# Altium footprint library TI - ADC.PcbLib: 213 footprints (part 7 of 14)
Each footprint in its own frame and in the unit in brackets; x right, y up, seen from the top. Pads: shape width x height; smd on the part's side, far side on the other; paste and mask are expansions set on the pad; w line width, h text height; cw(c..) or ccw(c..) is an arc to the next point about the centre after c.
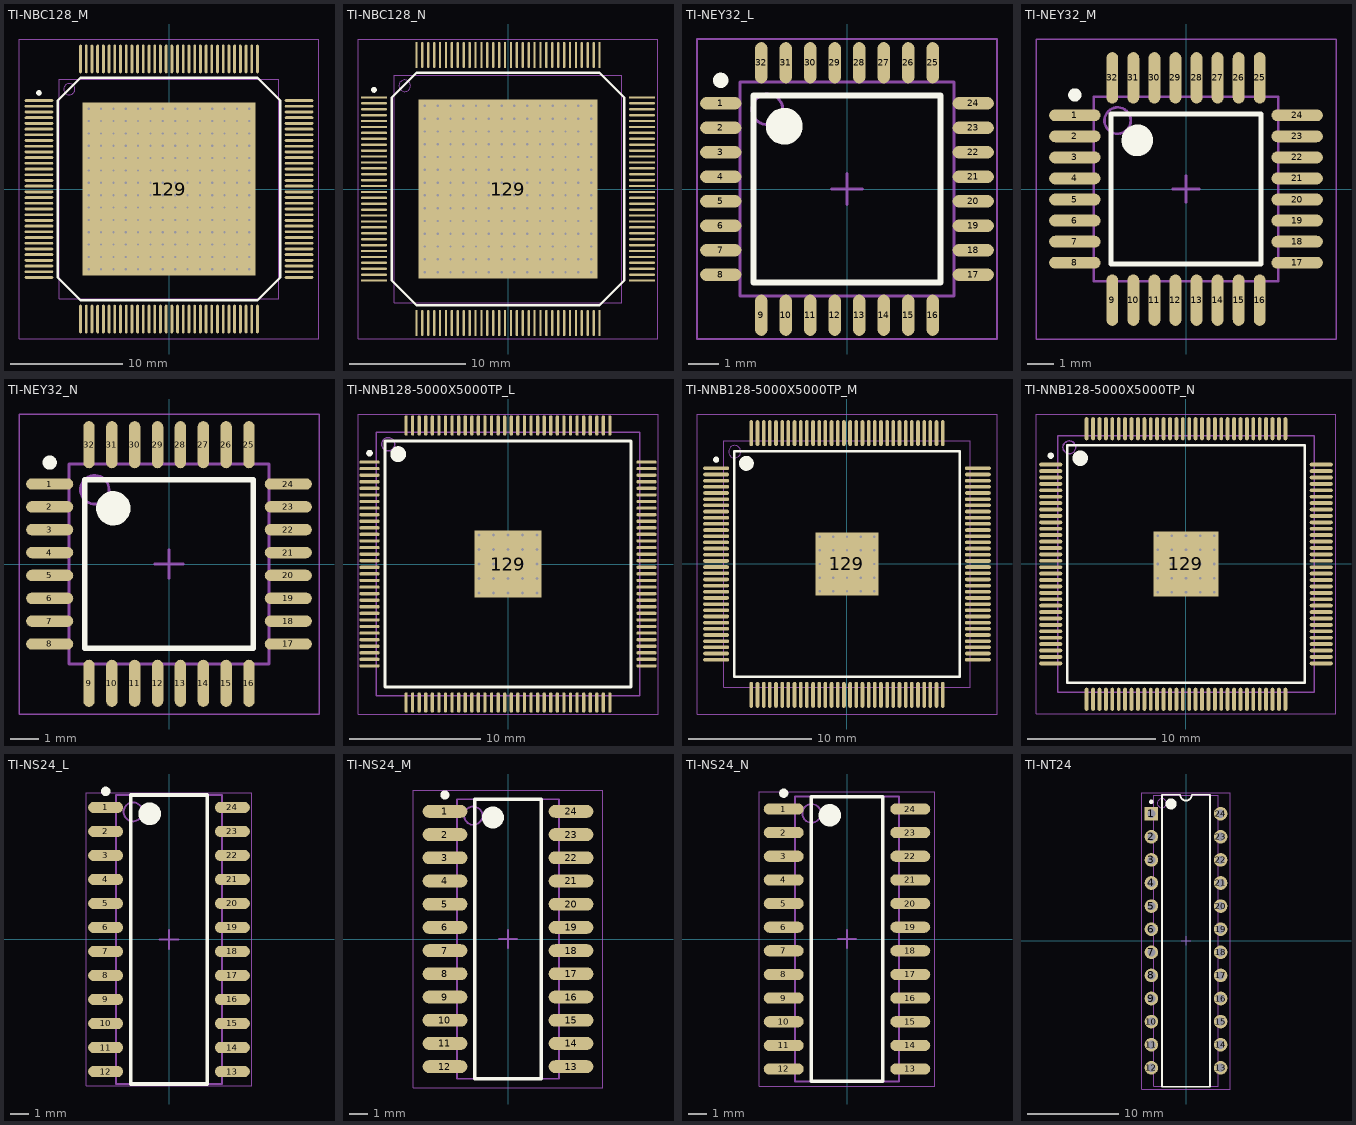
[diagram p6: the footprints below, top view; thin cyan lines are the x and y axes]

## TI-NBC128_M [mm] "CQFP, 128-Leads, Body 19.558x19.558mm, Pitch 0.508mm, Thermal Pad 15.39 x 15.39 mm, IPC Low Density"
height 1.99
pads (129):
  oval 2.55x0.25 smd: 1(-11.575,7.874) 2(-11.575,7.366) 3(-11.575,6.858) 4(-11.575,6.35) 5(-11.575,5.842) 6(-11.575,5.334) 7(-11.575,4.826) 8(-11.575,4.318) 9(-11.575,3.81) 10(-11.575,3.302) 11(-11.575,2.794) 12(-11.575,2.286) 13(-11.575,1.778) 14(-11.575,1.27) 15(-11.575,0.762) 16(-11.575,0.254) 17(-11.575,-0.254) 18(-11.575,-0.762) 19(-11.575,-1.27) 20(-11.575,-1.778) 21(-11.575,-2.286) 22(-11.575,-2.794) 23(-11.575,-3.302) 24(-11.575,-3.81) 25(-11.575,-4.318) 26(-11.575,-4.826) 27(-11.575,-5.334) 28(-11.575,-5.842) 29(-11.575,-6.35) 30(-11.575,-6.858) 31(-11.575,-7.366) 32(-11.575,-7.874) 65(11.575,-7.874) 66(11.575,-7.366) 67(11.575,-6.858) 68(11.575,-6.35) 69(11.575,-5.842) 70(11.575,-5.334) 71(11.575,-4.826) 72(11.575,-4.318) 73(11.575,-3.81) 74(11.575,-3.302) 75(11.575,-2.794) 76(11.575,-2.286) 77(11.575,-1.778) 78(11.575,-1.27) 79(11.575,-0.762) 80(11.575,-0.254) 81(11.575,0.254) 82(11.575,0.762) 83(11.575,1.27) 84(11.575,1.778) 85(11.575,2.286) 86(11.575,2.794) 87(11.575,3.302) 88(11.575,3.81) 89(11.575,4.318) 90(11.575,4.826) 91(11.575,5.334) 92(11.575,5.842) 93(11.575,6.35) 94(11.575,6.858) 95(11.575,7.366) 96(11.575,7.874)
  oval 0.25x2.55 smd: 33(-7.874,-11.575) 34(-7.366,-11.575) 35(-6.858,-11.575) 36(-6.35,-11.575) 37(-5.842,-11.575) 38(-5.334,-11.575) 39(-4.826,-11.575) 40(-4.318,-11.575) 41(-3.81,-11.575) 42(-3.302,-11.575) 43(-2.794,-11.575) 44(-2.286,-11.575) 45(-1.778,-11.575) 46(-1.27,-11.575) 47(-0.762,-11.575) 48(-0.254,-11.575) 49(0.254,-11.575) 50(0.762,-11.575) 51(1.27,-11.575) 52(1.778,-11.575) 53(2.286,-11.575) 54(2.794,-11.575) 55(3.302,-11.575) 56(3.81,-11.575) 57(4.318,-11.575) 58(4.826,-11.575) 59(5.334,-11.575) 60(5.842,-11.575) 61(6.35,-11.575) 62(6.858,-11.575) 63(7.366,-11.575) 64(7.874,-11.575) 97(7.874,11.575) 98(7.366,11.575) 99(6.858,11.575) 100(6.35,11.575) 101(5.842,11.575) 102(5.334,11.575) 103(4.826,11.575) 104(4.318,11.575) 105(3.81,11.575) 106(3.302,11.575) 107(2.794,11.575) 108(2.286,11.575) 109(1.778,11.575) 110(1.27,11.575) 111(0.762,11.575) 112(0.254,11.575) 113(-0.254,11.575) 114(-0.762,11.575) 115(-1.27,11.575) 116(-1.778,11.575) 117(-2.286,11.575) 118(-2.794,11.575) 119(-3.302,11.575) 120(-3.81,11.575) 121(-4.318,11.575) 122(-4.826,11.575) 123(-5.334,11.575) 124(-5.842,11.575) 125(-6.35,11.575) 126(-6.858,11.575) 127(-7.366,11.575) 128(-7.874,11.575)
  rect 15.39x15.39 smd: 129(0,0)
via -7.15,7.15 diameter 0.5 hole 0.2
via -6.05,7.15 diameter 0.5 hole 0.2
via -4.95,7.15 diameter 0.5 hole 0.2
via -3.85,7.15 diameter 0.5 hole 0.2
via -2.75,7.15 diameter 0.5 hole 0.2
via -1.65,7.15 diameter 0.5 hole 0.2
via -0.55,7.15 diameter 0.5 hole 0.2
via 0.55,7.15 diameter 0.5 hole 0.2
via 1.65,7.15 diameter 0.5 hole 0.2
via 2.75,7.15 diameter 0.5 hole 0.2
via 3.85,7.15 diameter 0.5 hole 0.2
via 4.95,7.15 diameter 0.5 hole 0.2
via 6.05,7.15 diameter 0.5 hole 0.2
via 7.15,7.15 diameter 0.5 hole 0.2
via -7.15,6.05 diameter 0.5 hole 0.2
via -6.05,6.05 diameter 0.5 hole 0.2
via -4.95,6.05 diameter 0.5 hole 0.2
via -3.85,6.05 diameter 0.5 hole 0.2
via -2.75,6.05 diameter 0.5 hole 0.2
via -1.65,6.05 diameter 0.5 hole 0.2
via -0.55,6.05 diameter 0.5 hole 0.2
via 0.55,6.05 diameter 0.5 hole 0.2
via 1.65,6.05 diameter 0.5 hole 0.2
via 2.75,6.05 diameter 0.5 hole 0.2
via 3.85,6.05 diameter 0.5 hole 0.2
via 4.95,6.05 diameter 0.5 hole 0.2
via 6.05,6.05 diameter 0.5 hole 0.2
via 7.15,6.05 diameter 0.5 hole 0.2
via -7.15,4.95 diameter 0.5 hole 0.2
via -6.05,4.95 diameter 0.5 hole 0.2
via -4.95,4.95 diameter 0.5 hole 0.2
via -3.85,4.95 diameter 0.5 hole 0.2
via -2.75,4.95 diameter 0.5 hole 0.2
via -1.65,4.95 diameter 0.5 hole 0.2
via -0.55,4.95 diameter 0.5 hole 0.2
via 0.55,4.95 diameter 0.5 hole 0.2
via 1.65,4.95 diameter 0.5 hole 0.2
via 2.75,4.95 diameter 0.5 hole 0.2
via 3.85,4.95 diameter 0.5 hole 0.2
via 4.95,4.95 diameter 0.5 hole 0.2
via 6.05,4.95 diameter 0.5 hole 0.2
via 7.15,4.95 diameter 0.5 hole 0.2
via -7.15,3.85 diameter 0.5 hole 0.2
via -6.05,3.85 diameter 0.5 hole 0.2
via -4.95,3.85 diameter 0.5 hole 0.2
via -3.85,3.85 diameter 0.5 hole 0.2
via -2.75,3.85 diameter 0.5 hole 0.2
via -1.65,3.85 diameter 0.5 hole 0.2
via -0.55,3.85 diameter 0.5 hole 0.2
via 0.55,3.85 diameter 0.5 hole 0.2
via 1.65,3.85 diameter 0.5 hole 0.2
via 2.75,3.85 diameter 0.5 hole 0.2
via 3.85,3.85 diameter 0.5 hole 0.2
via 4.95,3.85 diameter 0.5 hole 0.2
via 6.05,3.85 diameter 0.5 hole 0.2
via 7.15,3.85 diameter 0.5 hole 0.2
via -7.15,2.75 diameter 0.5 hole 0.2
via -6.05,2.75 diameter 0.5 hole 0.2
via -4.95,2.75 diameter 0.5 hole 0.2
via -3.85,2.75 diameter 0.5 hole 0.2
via -2.75,2.75 diameter 0.5 hole 0.2
via -1.65,2.75 diameter 0.5 hole 0.2
via -0.55,2.75 diameter 0.5 hole 0.2
via 0.55,2.75 diameter 0.5 hole 0.2
via 1.65,2.75 diameter 0.5 hole 0.2
via 2.75,2.75 diameter 0.5 hole 0.2
via 3.85,2.75 diameter 0.5 hole 0.2
via 4.95,2.75 diameter 0.5 hole 0.2
via 6.05,2.75 diameter 0.5 hole 0.2
via 7.15,2.75 diameter 0.5 hole 0.2
via -7.15,1.65 diameter 0.5 hole 0.2
via -6.05,1.65 diameter 0.5 hole 0.2
via -4.95,1.65 diameter 0.5 hole 0.2
via -3.85,1.65 diameter 0.5 hole 0.2
via -2.75,1.65 diameter 0.5 hole 0.2
via -1.65,1.65 diameter 0.5 hole 0.2
via -0.55,1.65 diameter 0.5 hole 0.2
via 0.55,1.65 diameter 0.5 hole 0.2
via 1.65,1.65 diameter 0.5 hole 0.2
via 2.75,1.65 diameter 0.5 hole 0.2
via 3.85,1.65 diameter 0.5 hole 0.2
via 4.95,1.65 diameter 0.5 hole 0.2
via 6.05,1.65 diameter 0.5 hole 0.2
via 7.15,1.65 diameter 0.5 hole 0.2
via -7.15,0.55 diameter 0.5 hole 0.2
via -6.05,0.55 diameter 0.5 hole 0.2
via -4.95,0.55 diameter 0.5 hole 0.2
via -3.85,0.55 diameter 0.5 hole 0.2
via -2.75,0.55 diameter 0.5 hole 0.2
via -1.65,0.55 diameter 0.5 hole 0.2
via -0.55,0.55 diameter 0.5 hole 0.2
via 0.55,0.55 diameter 0.5 hole 0.2
via 1.65,0.55 diameter 0.5 hole 0.2
via 2.75,0.55 diameter 0.5 hole 0.2
via 3.85,0.55 diameter 0.5 hole 0.2
via 4.95,0.55 diameter 0.5 hole 0.2
via 6.05,0.55 diameter 0.5 hole 0.2
via 7.15,0.55 diameter 0.5 hole 0.2
via -7.15,-0.55 diameter 0.5 hole 0.2
via -6.05,-0.55 diameter 0.5 hole 0.2
via -4.95,-0.55 diameter 0.5 hole 0.2
via -3.85,-0.55 diameter 0.5 hole 0.2
via -2.75,-0.55 diameter 0.5 hole 0.2
via -1.65,-0.55 diameter 0.5 hole 0.2
via -0.55,-0.55 diameter 0.5 hole 0.2
via 0.55,-0.55 diameter 0.5 hole 0.2
via 1.65,-0.55 diameter 0.5 hole 0.2
via 2.75,-0.55 diameter 0.5 hole 0.2
via 3.85,-0.55 diameter 0.5 hole 0.2
via 4.95,-0.55 diameter 0.5 hole 0.2
via 6.05,-0.55 diameter 0.5 hole 0.2
via 7.15,-0.55 diameter 0.5 hole 0.2
via -7.15,-1.65 diameter 0.5 hole 0.2
via -6.05,-1.65 diameter 0.5 hole 0.2
via -4.95,-1.65 diameter 0.5 hole 0.2
via -3.85,-1.65 diameter 0.5 hole 0.2
via -2.75,-1.65 diameter 0.5 hole 0.2
via -1.65,-1.65 diameter 0.5 hole 0.2
via -0.55,-1.65 diameter 0.5 hole 0.2
via 0.55,-1.65 diameter 0.5 hole 0.2
via 1.65,-1.65 diameter 0.5 hole 0.2
via 2.75,-1.65 diameter 0.5 hole 0.2
via 3.85,-1.65 diameter 0.5 hole 0.2
via 4.95,-1.65 diameter 0.5 hole 0.2
via 6.05,-1.65 diameter 0.5 hole 0.2
via 7.15,-1.65 diameter 0.5 hole 0.2
via -7.15,-2.75 diameter 0.5 hole 0.2
via -6.05,-2.75 diameter 0.5 hole 0.2
via -4.95,-2.75 diameter 0.5 hole 0.2
via -3.85,-2.75 diameter 0.5 hole 0.2
via -2.75,-2.75 diameter 0.5 hole 0.2
via -1.65,-2.75 diameter 0.5 hole 0.2
via -0.55,-2.75 diameter 0.5 hole 0.2
via 0.55,-2.75 diameter 0.5 hole 0.2
via 1.65,-2.75 diameter 0.5 hole 0.2
via 2.75,-2.75 diameter 0.5 hole 0.2
via 3.85,-2.75 diameter 0.5 hole 0.2
via 4.95,-2.75 diameter 0.5 hole 0.2
via 6.05,-2.75 diameter 0.5 hole 0.2
via 7.15,-2.75 diameter 0.5 hole 0.2
via -7.15,-3.85 diameter 0.5 hole 0.2
via -6.05,-3.85 diameter 0.5 hole 0.2
via -4.95,-3.85 diameter 0.5 hole 0.2
via -3.85,-3.85 diameter 0.5 hole 0.2
via -2.75,-3.85 diameter 0.5 hole 0.2
via -1.65,-3.85 diameter 0.5 hole 0.2
via -0.55,-3.85 diameter 0.5 hole 0.2
via 0.55,-3.85 diameter 0.5 hole 0.2
via 1.65,-3.85 diameter 0.5 hole 0.2
via 2.75,-3.85 diameter 0.5 hole 0.2
via 3.85,-3.85 diameter 0.5 hole 0.2
via 4.95,-3.85 diameter 0.5 hole 0.2
via 6.05,-3.85 diameter 0.5 hole 0.2
via 7.15,-3.85 diameter 0.5 hole 0.2
via -7.15,-4.95 diameter 0.5 hole 0.2
via -6.05,-4.95 diameter 0.5 hole 0.2
via -4.95,-4.95 diameter 0.5 hole 0.2
via -3.85,-4.95 diameter 0.5 hole 0.2
via -2.75,-4.95 diameter 0.5 hole 0.2
via -1.65,-4.95 diameter 0.5 hole 0.2
via -0.55,-4.95 diameter 0.5 hole 0.2
via 0.55,-4.95 diameter 0.5 hole 0.2
via 1.65,-4.95 diameter 0.5 hole 0.2
via 2.75,-4.95 diameter 0.5 hole 0.2
via 3.85,-4.95 diameter 0.5 hole 0.2
via 4.95,-4.95 diameter 0.5 hole 0.2
via 6.05,-4.95 diameter 0.5 hole 0.2
via 7.15,-4.95 diameter 0.5 hole 0.2
via -7.15,-6.05 diameter 0.5 hole 0.2
via -6.05,-6.05 diameter 0.5 hole 0.2
via -4.95,-6.05 diameter 0.5 hole 0.2
via -3.85,-6.05 diameter 0.5 hole 0.2
via -2.75,-6.05 diameter 0.5 hole 0.2
via -1.65,-6.05 diameter 0.5 hole 0.2
via -0.55,-6.05 diameter 0.5 hole 0.2
via 0.55,-6.05 diameter 0.5 hole 0.2
via 1.65,-6.05 diameter 0.5 hole 0.2
via 2.75,-6.05 diameter 0.5 hole 0.2
via 3.85,-6.05 diameter 0.5 hole 0.2
via 4.95,-6.05 diameter 0.5 hole 0.2
via 6.05,-6.05 diameter 0.5 hole 0.2
via 7.15,-6.05 diameter 0.5 hole 0.2
via -7.15,-7.15 diameter 0.5 hole 0.2
via -6.05,-7.15 diameter 0.5 hole 0.2
via -4.95,-7.15 diameter 0.5 hole 0.2
via -3.85,-7.15 diameter 0.5 hole 0.2
via -2.75,-7.15 diameter 0.5 hole 0.2
via -1.65,-7.15 diameter 0.5 hole 0.2
via -0.55,-7.15 diameter 0.5 hole 0.2
via 0.55,-7.15 diameter 0.5 hole 0.2
via 1.65,-7.15 diameter 0.5 hole 0.2
via 2.75,-7.15 diameter 0.5 hole 0.2
via 3.85,-7.15 diameter 0.5 hole 0.2
via 4.95,-7.15 diameter 0.5 hole 0.2
via 6.05,-7.15 diameter 0.5 hole 0.2
via 7.15,-7.15 diameter 0.5 hole 0.2
Top Overlay:
  circle w0.25: c-11.575,8.549 r0.125
  lines w0.2: -9.9,-7.875 -9.9,7.875 -7.875,9.9 7.875,9.9 9.9,7.875 9.9,-7.875 7.875,-9.9 -7.875,-9.9 -9.9,-7.875
Mechanical 13:
  circle w0.1: c-8.88,8.88 r0.5
  lines w0.1: -9.78,-9.78 -9.78,9.78 9.78,9.78 9.78,-9.78 -9.78,-9.78
Mechanical 15:
  lines w0.05: -13.35,-13.35 -13.35,13.35 13.35,13.35 13.35,-13.35 -13.35,-13.35
  lines w0.1: -0.5,0 0.5,0 ; 0,-0.5 0,0.5
3D body: height 1.99, standoff 0, extent -9.78,-9.78 9.78,9.78

## TI-NBC128_N [mm] "CQFP, 128-Leads, Body 19.558x19.558mm, Pitch 0.508mm, Thermal Pad 15.39 x 15.39 mm, IPC Medium Density"
height 1.99
pads (129):
  oval 2.25x0.2 smd: 1(-11.525,7.874) 2(-11.525,7.366) 3(-11.525,6.858) 4(-11.525,6.35) 5(-11.525,5.842) 6(-11.525,5.334) 7(-11.525,4.826) 8(-11.525,4.318) 9(-11.525,3.81) 10(-11.525,3.302) 11(-11.525,2.794) 12(-11.525,2.286) 13(-11.525,1.778) 14(-11.525,1.27) 15(-11.525,0.762) 16(-11.525,0.254) 17(-11.525,-0.254) 18(-11.525,-0.762) 19(-11.525,-1.27) 20(-11.525,-1.778) 21(-11.525,-2.286) 22(-11.525,-2.794) 23(-11.525,-3.302) 24(-11.525,-3.81) 25(-11.525,-4.318) 26(-11.525,-4.826) 27(-11.525,-5.334) 28(-11.525,-5.842) 29(-11.525,-6.35) 30(-11.525,-6.858) 31(-11.525,-7.366) 32(-11.525,-7.874) 65(11.525,-7.874) 66(11.525,-7.366) 67(11.525,-6.858) 68(11.525,-6.35) 69(11.525,-5.842) 70(11.525,-5.334) 71(11.525,-4.826) 72(11.525,-4.318) 73(11.525,-3.81) 74(11.525,-3.302) 75(11.525,-2.794) 76(11.525,-2.286) 77(11.525,-1.778) 78(11.525,-1.27) 79(11.525,-0.762) 80(11.525,-0.254) 81(11.525,0.254) 82(11.525,0.762) 83(11.525,1.27) 84(11.525,1.778) 85(11.525,2.286) 86(11.525,2.794) 87(11.525,3.302) 88(11.525,3.81) 89(11.525,4.318) 90(11.525,4.826) 91(11.525,5.334) 92(11.525,5.842) 93(11.525,6.35) 94(11.525,6.858) 95(11.525,7.366) 96(11.525,7.874)
  oval 0.2x2.25 smd: 33(-7.874,-11.525) 34(-7.366,-11.525) 35(-6.858,-11.525) 36(-6.35,-11.525) 37(-5.842,-11.525) 38(-5.334,-11.525) 39(-4.826,-11.525) 40(-4.318,-11.525) 41(-3.81,-11.525) 42(-3.302,-11.525) 43(-2.794,-11.525) 44(-2.286,-11.525) 45(-1.778,-11.525) 46(-1.27,-11.525) 47(-0.762,-11.525) 48(-0.254,-11.525) 49(0.254,-11.525) 50(0.762,-11.525) 51(1.27,-11.525) 52(1.778,-11.525) 53(2.286,-11.525) 54(2.794,-11.525) 55(3.302,-11.525) 56(3.81,-11.525) 57(4.318,-11.525) 58(4.826,-11.525) 59(5.334,-11.525) 60(5.842,-11.525) 61(6.35,-11.525) 62(6.858,-11.525) 63(7.366,-11.525) 64(7.874,-11.525) 97(7.874,11.525) 98(7.366,11.525) 99(6.858,11.525) 100(6.35,11.525) 101(5.842,11.525) 102(5.334,11.525) 103(4.826,11.525) 104(4.318,11.525) 105(3.81,11.525) 106(3.302,11.525) 107(2.794,11.525) 108(2.286,11.525) 109(1.778,11.525) 110(1.27,11.525) 111(0.762,11.525) 112(0.254,11.525) 113(-0.254,11.525) 114(-0.762,11.525) 115(-1.27,11.525) 116(-1.778,11.525) 117(-2.286,11.525) 118(-2.794,11.525) 119(-3.302,11.525) 120(-3.81,11.525) 121(-4.318,11.525) 122(-4.826,11.525) 123(-5.334,11.525) 124(-5.842,11.525) 125(-6.35,11.525) 126(-6.858,11.525) 127(-7.366,11.525) 128(-7.874,11.525)
  rect 15.39x15.39 smd: 129(0,0)
via -7.15,7.15 diameter 0.5 hole 0.2
via -6.05,7.15 diameter 0.5 hole 0.2
via -4.95,7.15 diameter 0.5 hole 0.2
via -3.85,7.15 diameter 0.5 hole 0.2
via -2.75,7.15 diameter 0.5 hole 0.2
via -1.65,7.15 diameter 0.5 hole 0.2
via -0.55,7.15 diameter 0.5 hole 0.2
via 0.55,7.15 diameter 0.5 hole 0.2
via 1.65,7.15 diameter 0.5 hole 0.2
via 2.75,7.15 diameter 0.5 hole 0.2
via 3.85,7.15 diameter 0.5 hole 0.2
via 4.95,7.15 diameter 0.5 hole 0.2
via 6.05,7.15 diameter 0.5 hole 0.2
via 7.15,7.15 diameter 0.5 hole 0.2
via -7.15,6.05 diameter 0.5 hole 0.2
via -6.05,6.05 diameter 0.5 hole 0.2
via -4.95,6.05 diameter 0.5 hole 0.2
via -3.85,6.05 diameter 0.5 hole 0.2
via -2.75,6.05 diameter 0.5 hole 0.2
via -1.65,6.05 diameter 0.5 hole 0.2
via -0.55,6.05 diameter 0.5 hole 0.2
via 0.55,6.05 diameter 0.5 hole 0.2
via 1.65,6.05 diameter 0.5 hole 0.2
via 2.75,6.05 diameter 0.5 hole 0.2
via 3.85,6.05 diameter 0.5 hole 0.2
via 4.95,6.05 diameter 0.5 hole 0.2
via 6.05,6.05 diameter 0.5 hole 0.2
via 7.15,6.05 diameter 0.5 hole 0.2
via -7.15,4.95 diameter 0.5 hole 0.2
via -6.05,4.95 diameter 0.5 hole 0.2
via -4.95,4.95 diameter 0.5 hole 0.2
via -3.85,4.95 diameter 0.5 hole 0.2
via -2.75,4.95 diameter 0.5 hole 0.2
via -1.65,4.95 diameter 0.5 hole 0.2
via -0.55,4.95 diameter 0.5 hole 0.2
via 0.55,4.95 diameter 0.5 hole 0.2
via 1.65,4.95 diameter 0.5 hole 0.2
via 2.75,4.95 diameter 0.5 hole 0.2
via 3.85,4.95 diameter 0.5 hole 0.2
via 4.95,4.95 diameter 0.5 hole 0.2
via 6.05,4.95 diameter 0.5 hole 0.2
via 7.15,4.95 diameter 0.5 hole 0.2
via -7.15,3.85 diameter 0.5 hole 0.2
via -6.05,3.85 diameter 0.5 hole 0.2
via -4.95,3.85 diameter 0.5 hole 0.2
via -3.85,3.85 diameter 0.5 hole 0.2
via -2.75,3.85 diameter 0.5 hole 0.2
via -1.65,3.85 diameter 0.5 hole 0.2
via -0.55,3.85 diameter 0.5 hole 0.2
via 0.55,3.85 diameter 0.5 hole 0.2
via 1.65,3.85 diameter 0.5 hole 0.2
via 2.75,3.85 diameter 0.5 hole 0.2
via 3.85,3.85 diameter 0.5 hole 0.2
via 4.95,3.85 diameter 0.5 hole 0.2
via 6.05,3.85 diameter 0.5 hole 0.2
via 7.15,3.85 diameter 0.5 hole 0.2
via -7.15,2.75 diameter 0.5 hole 0.2
via -6.05,2.75 diameter 0.5 hole 0.2
via -4.95,2.75 diameter 0.5 hole 0.2
via -3.85,2.75 diameter 0.5 hole 0.2
via -2.75,2.75 diameter 0.5 hole 0.2
via -1.65,2.75 diameter 0.5 hole 0.2
via -0.55,2.75 diameter 0.5 hole 0.2
via 0.55,2.75 diameter 0.5 hole 0.2
via 1.65,2.75 diameter 0.5 hole 0.2
via 2.75,2.75 diameter 0.5 hole 0.2
via 3.85,2.75 diameter 0.5 hole 0.2
via 4.95,2.75 diameter 0.5 hole 0.2
via 6.05,2.75 diameter 0.5 hole 0.2
via 7.15,2.75 diameter 0.5 hole 0.2
via -7.15,1.65 diameter 0.5 hole 0.2
via -6.05,1.65 diameter 0.5 hole 0.2
via -4.95,1.65 diameter 0.5 hole 0.2
via -3.85,1.65 diameter 0.5 hole 0.2
via -2.75,1.65 diameter 0.5 hole 0.2
via -1.65,1.65 diameter 0.5 hole 0.2
via -0.55,1.65 diameter 0.5 hole 0.2
via 0.55,1.65 diameter 0.5 hole 0.2
via 1.65,1.65 diameter 0.5 hole 0.2
via 2.75,1.65 diameter 0.5 hole 0.2
via 3.85,1.65 diameter 0.5 hole 0.2
via 4.95,1.65 diameter 0.5 hole 0.2
via 6.05,1.65 diameter 0.5 hole 0.2
via 7.15,1.65 diameter 0.5 hole 0.2
via -7.15,0.55 diameter 0.5 hole 0.2
via -6.05,0.55 diameter 0.5 hole 0.2
via -4.95,0.55 diameter 0.5 hole 0.2
via -3.85,0.55 diameter 0.5 hole 0.2
via -2.75,0.55 diameter 0.5 hole 0.2
via -1.65,0.55 diameter 0.5 hole 0.2
via -0.55,0.55 diameter 0.5 hole 0.2
via 0.55,0.55 diameter 0.5 hole 0.2
via 1.65,0.55 diameter 0.5 hole 0.2
via 2.75,0.55 diameter 0.5 hole 0.2
via 3.85,0.55 diameter 0.5 hole 0.2
via 4.95,0.55 diameter 0.5 hole 0.2
via 6.05,0.55 diameter 0.5 hole 0.2
via 7.15,0.55 diameter 0.5 hole 0.2
via -7.15,-0.55 diameter 0.5 hole 0.2
via -6.05,-0.55 diameter 0.5 hole 0.2
via -4.95,-0.55 diameter 0.5 hole 0.2
via -3.85,-0.55 diameter 0.5 hole 0.2
via -2.75,-0.55 diameter 0.5 hole 0.2
via -1.65,-0.55 diameter 0.5 hole 0.2
via -0.55,-0.55 diameter 0.5 hole 0.2
via 0.55,-0.55 diameter 0.5 hole 0.2
via 1.65,-0.55 diameter 0.5 hole 0.2
via 2.75,-0.55 diameter 0.5 hole 0.2
via 3.85,-0.55 diameter 0.5 hole 0.2
via 4.95,-0.55 diameter 0.5 hole 0.2
via 6.05,-0.55 diameter 0.5 hole 0.2
via 7.15,-0.55 diameter 0.5 hole 0.2
via -7.15,-1.65 diameter 0.5 hole 0.2
via -6.05,-1.65 diameter 0.5 hole 0.2
via -4.95,-1.65 diameter 0.5 hole 0.2
via -3.85,-1.65 diameter 0.5 hole 0.2
via -2.75,-1.65 diameter 0.5 hole 0.2
via -1.65,-1.65 diameter 0.5 hole 0.2
via -0.55,-1.65 diameter 0.5 hole 0.2
via 0.55,-1.65 diameter 0.5 hole 0.2
via 1.65,-1.65 diameter 0.5 hole 0.2
via 2.75,-1.65 diameter 0.5 hole 0.2
via 3.85,-1.65 diameter 0.5 hole 0.2
via 4.95,-1.65 diameter 0.5 hole 0.2
via 6.05,-1.65 diameter 0.5 hole 0.2
via 7.15,-1.65 diameter 0.5 hole 0.2
via -7.15,-2.75 diameter 0.5 hole 0.2
via -6.05,-2.75 diameter 0.5 hole 0.2
via -4.95,-2.75 diameter 0.5 hole 0.2
via -3.85,-2.75 diameter 0.5 hole 0.2
via -2.75,-2.75 diameter 0.5 hole 0.2
via -1.65,-2.75 diameter 0.5 hole 0.2
via -0.55,-2.75 diameter 0.5 hole 0.2
via 0.55,-2.75 diameter 0.5 hole 0.2
via 1.65,-2.75 diameter 0.5 hole 0.2
via 2.75,-2.75 diameter 0.5 hole 0.2
via 3.85,-2.75 diameter 0.5 hole 0.2
via 4.95,-2.75 diameter 0.5 hole 0.2
via 6.05,-2.75 diameter 0.5 hole 0.2
via 7.15,-2.75 diameter 0.5 hole 0.2
via -7.15,-3.85 diameter 0.5 hole 0.2
via -6.05,-3.85 diameter 0.5 hole 0.2
via -4.95,-3.85 diameter 0.5 hole 0.2
via -3.85,-3.85 diameter 0.5 hole 0.2
via -2.75,-3.85 diameter 0.5 hole 0.2
via -1.65,-3.85 diameter 0.5 hole 0.2
via -0.55,-3.85 diameter 0.5 hole 0.2
via 0.55,-3.85 diameter 0.5 hole 0.2
via 1.65,-3.85 diameter 0.5 hole 0.2
via 2.75,-3.85 diameter 0.5 hole 0.2
via 3.85,-3.85 diameter 0.5 hole 0.2
via 4.95,-3.85 diameter 0.5 hole 0.2
via 6.05,-3.85 diameter 0.5 hole 0.2
via 7.15,-3.85 diameter 0.5 hole 0.2
via -7.15,-4.95 diameter 0.5 hole 0.2
via -6.05,-4.95 diameter 0.5 hole 0.2
via -4.95,-4.95 diameter 0.5 hole 0.2
via -3.85,-4.95 diameter 0.5 hole 0.2
via -2.75,-4.95 diameter 0.5 hole 0.2
via -1.65,-4.95 diameter 0.5 hole 0.2
via -0.55,-4.95 diameter 0.5 hole 0.2
via 0.55,-4.95 diameter 0.5 hole 0.2
via 1.65,-4.95 diameter 0.5 hole 0.2
via 2.75,-4.95 diameter 0.5 hole 0.2
via 3.85,-4.95 diameter 0.5 hole 0.2
via 4.95,-4.95 diameter 0.5 hole 0.2
via 6.05,-4.95 diameter 0.5 hole 0.2
via 7.15,-4.95 diameter 0.5 hole 0.2
via -7.15,-6.05 diameter 0.5 hole 0.2
via -6.05,-6.05 diameter 0.5 hole 0.2
via -4.95,-6.05 diameter 0.5 hole 0.2
via -3.85,-6.05 diameter 0.5 hole 0.2
via -2.75,-6.05 diameter 0.5 hole 0.2
via -1.65,-6.05 diameter 0.5 hole 0.2
via -0.55,-6.05 diameter 0.5 hole 0.2
via 0.55,-6.05 diameter 0.5 hole 0.2
via 1.65,-6.05 diameter 0.5 hole 0.2
via 2.75,-6.05 diameter 0.5 hole 0.2
via 3.85,-6.05 diameter 0.5 hole 0.2
via 4.95,-6.05 diameter 0.5 hole 0.2
via 6.05,-6.05 diameter 0.5 hole 0.2
via 7.15,-6.05 diameter 0.5 hole 0.2
via -7.15,-7.15 diameter 0.5 hole 0.2
via -6.05,-7.15 diameter 0.5 hole 0.2
via -4.95,-7.15 diameter 0.5 hole 0.2
via -3.85,-7.15 diameter 0.5 hole 0.2
via -2.75,-7.15 diameter 0.5 hole 0.2
via -1.65,-7.15 diameter 0.5 hole 0.2
via -0.55,-7.15 diameter 0.5 hole 0.2
via 0.55,-7.15 diameter 0.5 hole 0.2
via 1.65,-7.15 diameter 0.5 hole 0.2
via 2.75,-7.15 diameter 0.5 hole 0.2
via 3.85,-7.15 diameter 0.5 hole 0.2
via 4.95,-7.15 diameter 0.5 hole 0.2
via 6.05,-7.15 diameter 0.5 hole 0.2
via 7.15,-7.15 diameter 0.5 hole 0.2
Top Overlay:
  circle w0.25: c-11.525,8.524 r0.125
  lines w0.2: -10,-7.875 -10,7.875 -7.875,10 7.875,10 10,7.875 10,-7.875 7.875,-10 -7.875,-10 -10,-7.875
Mechanical 13:
  circle w0.1: c-8.88,8.88 r0.5
  lines w0.1: -9.78,-9.78 -9.78,9.78 9.78,9.78 9.78,-9.78 -9.78,-9.78
Mechanical 15:
  lines w0.05: -12.9,-12.9 -12.9,12.9 12.9,12.9 12.9,-12.9 -12.9,-12.9
  lines w0.1: -0.5,0 0.5,0 ; 0,-0.5 0,0.5
3D body: height 1.99, standoff 0, extent -9.78,-9.78 9.78,9.78

## TI-NEY32_L [mm] "QFP, 32-Leads, Body 7x7mm, Pitch 0.8mm, IPC High Density"
height 1.6
pads (32):
  oval 1.35x0.4 smd: 1(-4.125,2.8) 2(-4.125,2) 3(-4.125,1.2) 4(-4.125,0.4) 5(-4.125,-0.4) 6(-4.125,-1.2) 7(-4.125,-2) 8(-4.125,-2.8) 17(4.125,-2.8) 18(4.125,-2) 19(4.125,-1.2) 20(4.125,-0.4) 21(4.125,0.4) 22(4.125,1.2) 23(4.125,2) 24(4.125,2.8)
  oval 0.4x1.35 smd: 9(-2.8,-4.125) 10(-2,-4.125) 11(-1.2,-4.125) 12(-0.4,-4.125) 13(0.4,-4.125) 14(1.2,-4.125) 15(2,-4.125) 16(2.8,-4.125) 25(2.8,4.125) 26(2,4.125) 27(1.2,4.125) 28(0.4,4.125) 29(-0.4,4.125) 30(-1.2,4.125) 31(-2,4.125) 32(-2.8,4.125)
Top Overlay:
  circle w0.25: c-4.125,3.55 r0.125
  circle w0.6: c-2.05,2.05 r0.3
  lines w0.2: -3.05,-3.05 -3.05,3.05 3.05,3.05 3.05,-3.05 -3.05,-3.05
Mechanical 13:
  circle w0.1: c-2.6,2.6 r0.5
  lines w0.1: -3.5,-3.5 -3.5,3.5 3.5,3.5 3.5,-3.5 -3.5,-3.5
Mechanical 15:
  lines w0.05: -4.9,-4.9 -4.9,4.9 4.9,4.9 4.9,-4.9 -4.9,-4.9
  lines w0.1: -0.5,0 0.5,0 ; 0,-0.5 0,0.5
3D body: height 1.6, standoff 0.05, extent -3.5,-3.5 3.5,3.5

## TI-NEY32_M [mm] "QFP, 32-Leads, Body 7x7mm, Pitch 0.8mm, IPC Low Density"
height 1.6
pads (32):
  oval 1.95x0.45 smd: 1(-4.225,2.8) 2(-4.225,2) 3(-4.225,1.2) 4(-4.225,0.4) 5(-4.225,-0.4) 6(-4.225,-1.2) 7(-4.225,-2) 8(-4.225,-2.8) 17(4.225,-2.8) 18(4.225,-2) 19(4.225,-1.2) 20(4.225,-0.4) 21(4.225,0.4) 22(4.225,1.2) 23(4.225,2) 24(4.225,2.8)
  oval 0.45x1.95 smd: 9(-2.8,-4.225) 10(-2,-4.225) 11(-1.2,-4.225) 12(-0.4,-4.225) 13(0.4,-4.225) 14(1.2,-4.225) 15(2,-4.225) 16(2.8,-4.225) 25(2.8,4.225) 26(2,4.225) 27(1.2,4.225) 28(0.4,4.225) 29(-0.4,4.225) 30(-1.2,4.225) 31(-2,4.225) 32(-2.8,4.225)
Top Overlay:
  circle w0.25: c-4.225,3.575 r0.125
  circle w0.6: c-1.85,1.85 r0.3
  lines w0.2: -2.85,-2.85 -2.85,2.85 2.85,2.85 2.85,-2.85 -2.85,-2.85
Mechanical 13:
  circle w0.1: c-2.6,2.6 r0.5
  lines w0.1: -3.5,-3.5 -3.5,3.5 3.5,3.5 3.5,-3.5 -3.5,-3.5
Mechanical 15:
  lines w0.05: -5.7,-5.7 -5.7,5.7 5.7,5.7 5.7,-5.7 -5.7,-5.7
  lines w0.1: -0.5,0 0.5,0 ; 0,-0.5 0,0.5
3D body: height 1.6, standoff 0.05, extent -3.5,-3.5 3.5,3.5

## TI-NEY32_N [mm] "QFP, 32-Leads, Body 7x7mm, Pitch 0.8mm, IPC Medium Density"
height 1.6
pads (32):
  oval 1.65x0.4 smd: 1(-4.175,2.8) 2(-4.175,2) 3(-4.175,1.2) 4(-4.175,0.4) 5(-4.175,-0.4) 6(-4.175,-1.2) 7(-4.175,-2) 8(-4.175,-2.8) 17(4.175,-2.8) 18(4.175,-2) 19(4.175,-1.2) 20(4.175,-0.4) 21(4.175,0.4) 22(4.175,1.2) 23(4.175,2) 24(4.175,2.8)
  oval 0.4x1.65 smd: 9(-2.8,-4.175) 10(-2,-4.175) 11(-1.2,-4.175) 12(-0.4,-4.175) 13(0.4,-4.175) 14(1.2,-4.175) 15(2,-4.175) 16(2.8,-4.175) 25(2.8,4.175) 26(2,4.175) 27(1.2,4.175) 28(0.4,4.175) 29(-0.4,4.175) 30(-1.2,4.175) 31(-2,4.175) 32(-2.8,4.175)
Top Overlay:
  circle w0.25: c-4.175,3.55 r0.125
  circle w0.6: c-1.95,1.95 r0.3
  lines w0.2: -2.95,-2.95 -2.95,2.95 2.95,2.95 2.95,-2.95 -2.95,-2.95
Mechanical 13:
  circle w0.1: c-2.6,2.6 r0.5
  lines w0.1: -3.5,-3.5 -3.5,3.5 3.5,3.5 3.5,-3.5 -3.5,-3.5
Mechanical 15:
  lines w0.05: -5.25,-5.25 -5.25,5.25 5.25,5.25 5.25,-5.25 -5.25,-5.25
  lines w0.1: -0.5,0 0.5,0 ; 0,-0.5 0,0.5
3D body: height 1.6, standoff 0.05, extent -3.5,-3.5 3.5,3.5

## TI-NNB128-5000X5000TP_L [mm] "QFP, 128-Leads, Body 20x20mm, Pitch 0.5mm, Thermal Pad 5.1x5.1mm, IPC High Density"
height 1.6
pads (129):
  oval 1.55x0.25 smd: 1(-10.525,7.75) 2(-10.525,7.25) 3(-10.525,6.75) 4(-10.525,6.25) 5(-10.525,5.75) 6(-10.525,5.25) 7(-10.525,4.75) 8(-10.525,4.25) 9(-10.525,3.75) 10(-10.525,3.25) 11(-10.525,2.75) 12(-10.525,2.25) 13(-10.525,1.75) 14(-10.525,1.25) 15(-10.525,0.75) 16(-10.525,0.25) 17(-10.525,-0.25) 18(-10.525,-0.75) 19(-10.525,-1.25) 20(-10.525,-1.75) 21(-10.525,-2.25) 22(-10.525,-2.75) 23(-10.525,-3.25) 24(-10.525,-3.75) 25(-10.525,-4.25) 26(-10.525,-4.75) 27(-10.525,-5.25) 28(-10.525,-5.75) 29(-10.525,-6.25) 30(-10.525,-6.75) 31(-10.525,-7.25) 32(-10.525,-7.75) 65(10.525,-7.75) 66(10.525,-7.25) 67(10.525,-6.75) 68(10.525,-6.25) 69(10.525,-5.75) 70(10.525,-5.25) 71(10.525,-4.75) 72(10.525,-4.25) 73(10.525,-3.75) 74(10.525,-3.25) 75(10.525,-2.75) 76(10.525,-2.25) 77(10.525,-1.75) 78(10.525,-1.25) 79(10.525,-0.75) 80(10.525,-0.25) 81(10.525,0.25) 82(10.525,0.75) 83(10.525,1.25) 84(10.525,1.75) 85(10.525,2.25) 86(10.525,2.75) 87(10.525,3.25) 88(10.525,3.75) 89(10.525,4.25) 90(10.525,4.75) 91(10.525,5.25) 92(10.525,5.75) 93(10.525,6.25) 94(10.525,6.75) 95(10.525,7.25) 96(10.525,7.75)
  oval 0.25x1.55 smd: 33(-7.75,-10.525) 34(-7.25,-10.525) 35(-6.75,-10.525) 36(-6.25,-10.525) 37(-5.75,-10.525) 38(-5.25,-10.525) 39(-4.75,-10.525) 40(-4.25,-10.525) 41(-3.75,-10.525) 42(-3.25,-10.525) 43(-2.75,-10.525) 44(-2.25,-10.525) 45(-1.75,-10.525) 46(-1.25,-10.525) 47(-0.75,-10.525) 48(-0.25,-10.525) 49(0.25,-10.525) 50(0.75,-10.525) 51(1.25,-10.525) 52(1.75,-10.525) 53(2.25,-10.525) 54(2.75,-10.525) 55(3.25,-10.525) 56(3.75,-10.525) 57(4.25,-10.525) 58(4.75,-10.525) 59(5.25,-10.525) 60(5.75,-10.525) 61(6.25,-10.525) 62(6.75,-10.525) 63(7.25,-10.525) 64(7.75,-10.525) 97(7.75,10.525) 98(7.25,10.525) 99(6.75,10.525) 100(6.25,10.525) 101(5.75,10.525) 102(5.25,10.525) 103(4.75,10.525) 104(4.25,10.525) 105(3.75,10.525) 106(3.25,10.525) 107(2.75,10.525) 108(2.25,10.525) 109(1.75,10.525) 110(1.25,10.525) 111(0.75,10.525) 112(0.25,10.525) 113(-0.25,10.525) 114(-0.75,10.525) 115(-1.25,10.525) 116(-1.75,10.525) 117(-2.25,10.525) 118(-2.75,10.525) 119(-3.25,10.525) 120(-3.75,10.525) 121(-4.25,10.525) 122(-4.75,10.525) 123(-5.25,10.525) 124(-5.75,10.525) 125(-6.25,10.525) 126(-6.75,10.525) 127(-7.25,10.525) 128(-7.75,10.525)
  rect 5.1x5.1 smd: 129(0,0)
via -2.2,2.2 diameter 0.5 hole 0.2
via -1.1,2.2 diameter 0.5 hole 0.2
via 0,2.2 diameter 0.5 hole 0.2
via 1.1,2.2 diameter 0.5 hole 0.2
via 2.2,2.2 diameter 0.5 hole 0.2
via -2.2,1.1 diameter 0.5 hole 0.2
via -1.1,1.1 diameter 0.5 hole 0.2
via 0,1.1 diameter 0.5 hole 0.2
via 1.1,1.1 diameter 0.5 hole 0.2
via 2.2,1.1 diameter 0.5 hole 0.2
via -2.2,0 diameter 0.5 hole 0.2
via -1.1,0 diameter 0.5 hole 0.2
via 0,0 diameter 0.5 hole 0.2
via 1.1,0 diameter 0.5 hole 0.2
via 2.2,0 diameter 0.5 hole 0.2
via -2.2,-1.1 diameter 0.5 hole 0.2
via -1.1,-1.1 diameter 0.5 hole 0.2
via 0,-1.1 diameter 0.5 hole 0.2
via 1.1,-1.1 diameter 0.5 hole 0.2
via 2.2,-1.1 diameter 0.5 hole 0.2
via -2.2,-2.2 diameter 0.5 hole 0.2
via -1.1,-2.2 diameter 0.5 hole 0.2
via 0,-2.2 diameter 0.5 hole 0.2
via 1.1,-2.2 diameter 0.5 hole 0.2
via 2.2,-2.2 diameter 0.5 hole 0.2
Top Overlay:
  circle w0.25: c-10.525,8.425 r0.125
  circle w0.6: c-8.35,8.35 r0.3
  lines w0.2: -9.35,-9.35 -9.35,9.35 9.35,9.35 9.35,-9.35 -9.35,-9.35
Mechanical 13:
  circle w0.1: c-9.1,9.1 r0.5
  lines w0.1: -10,-10 -10,10 10,10 10,-10 -10,-10
Mechanical 15:
  lines w0.05: -11.4,-11.4 -11.4,11.4 11.4,11.4 11.4,-11.4 -11.4,-11.4
  lines w0.1: -0.5,0 0.5,0 ; 0,-0.5 0,0.5
3D body: height 1.6, standoff 0.05, extent -10,-10 10,10

## TI-NNB128-5000X5000TP_M [mm] "QFP, 128-Leads, Body 20x20mm, Pitch 0.5mm, Thermal Pad 5.1x5.1mm, IPC Low Density"
height 1.6
pads (129):
  oval 2.1x0.3 smd: 1(-10.6,7.75) 2(-10.6,7.25) 3(-10.6,6.75) 4(-10.6,6.25) 5(-10.6,5.75) 6(-10.6,5.25) 7(-10.6,4.75) 8(-10.6,4.25) 9(-10.6,3.75) 10(-10.6,3.25) 11(-10.6,2.75) 12(-10.6,2.25) 13(-10.6,1.75) 14(-10.6,1.25) 15(-10.6,0.75) 16(-10.6,0.25) 17(-10.6,-0.25) 18(-10.6,-0.75) 19(-10.6,-1.25) 20(-10.6,-1.75) 21(-10.6,-2.25) 22(-10.6,-2.75) 23(-10.6,-3.25) 24(-10.6,-3.75) 25(-10.6,-4.25) 26(-10.6,-4.75) 27(-10.6,-5.25) 28(-10.6,-5.75) 29(-10.6,-6.25) 30(-10.6,-6.75) 31(-10.6,-7.25) 32(-10.6,-7.75) 65(10.6,-7.75) 66(10.6,-7.25) 67(10.6,-6.75) 68(10.6,-6.25) 69(10.6,-5.75) 70(10.6,-5.25) 71(10.6,-4.75) 72(10.6,-4.25) 73(10.6,-3.75) 74(10.6,-3.25) 75(10.6,-2.75) 76(10.6,-2.25) 77(10.6,-1.75) 78(10.6,-1.25) 79(10.6,-0.75) 80(10.6,-0.25) 81(10.6,0.25) 82(10.6,0.75) 83(10.6,1.25) 84(10.6,1.75) 85(10.6,2.25) 86(10.6,2.75) 87(10.6,3.25) 88(10.6,3.75) 89(10.6,4.25) 90(10.6,4.75) 91(10.6,5.25) 92(10.6,5.75) 93(10.6,6.25) 94(10.6,6.75) 95(10.6,7.25) 96(10.6,7.75)
  oval 0.3x2.1 smd: 33(-7.75,-10.6) 34(-7.25,-10.6) 35(-6.75,-10.6) 36(-6.25,-10.6) 37(-5.75,-10.6) 38(-5.25,-10.6) 39(-4.75,-10.6) 40(-4.25,-10.6) 41(-3.75,-10.6) 42(-3.25,-10.6) 43(-2.75,-10.6) 44(-2.25,-10.6) 45(-1.75,-10.6) 46(-1.25,-10.6) 47(-0.75,-10.6) 48(-0.25,-10.6) 49(0.25,-10.6) 50(0.75,-10.6) 51(1.25,-10.6) 52(1.75,-10.6) 53(2.25,-10.6) 54(2.75,-10.6) 55(3.25,-10.6) 56(3.75,-10.6) 57(4.25,-10.6) 58(4.75,-10.6) 59(5.25,-10.6) 60(5.75,-10.6) 61(6.25,-10.6) 62(6.75,-10.6) 63(7.25,-10.6) 64(7.75,-10.6) 97(7.75,10.6) 98(7.25,10.6) 99(6.75,10.6) 100(6.25,10.6) 101(5.75,10.6) 102(5.25,10.6) 103(4.75,10.6) 104(4.25,10.6) 105(3.75,10.6) 106(3.25,10.6) 107(2.75,10.6) 108(2.25,10.6) 109(1.75,10.6) 110(1.25,10.6) 111(0.75,10.6) 112(0.25,10.6) 113(-0.25,10.6) 114(-0.75,10.6) 115(-1.25,10.6) 116(-1.75,10.6) 117(-2.25,10.6) 118(-2.75,10.6) 119(-3.25,10.6) 120(-3.75,10.6) 121(-4.25,10.6) 122(-4.75,10.6) 123(-5.25,10.6) 124(-5.75,10.6) 125(-6.25,10.6) 126(-6.75,10.6) 127(-7.25,10.6) 128(-7.75,10.6)
  rect 5.1x5.1 smd: 129(0,0)
via -2.2,2.2 diameter 0.5 hole 0.2
via -1.1,2.2 diameter 0.5 hole 0.2
via 0,2.2 diameter 0.5 hole 0.2
via 1.1,2.2 diameter 0.5 hole 0.2
via 2.2,2.2 diameter 0.5 hole 0.2
via -2.2,1.1 diameter 0.5 hole 0.2
via -1.1,1.1 diameter 0.5 hole 0.2
via 0,1.1 diameter 0.5 hole 0.2
via 1.1,1.1 diameter 0.5 hole 0.2
via 2.2,1.1 diameter 0.5 hole 0.2
via -2.2,0 diameter 0.5 hole 0.2
via -1.1,0 diameter 0.5 hole 0.2
via 0,0 diameter 0.5 hole 0.2
via 1.1,0 diameter 0.5 hole 0.2
via 2.2,0 diameter 0.5 hole 0.2
via -2.2,-1.1 diameter 0.5 hole 0.2
via -1.1,-1.1 diameter 0.5 hole 0.2
via 0,-1.1 diameter 0.5 hole 0.2
via 1.1,-1.1 diameter 0.5 hole 0.2
via 2.2,-1.1 diameter 0.5 hole 0.2
via -2.2,-2.2 diameter 0.5 hole 0.2
via -1.1,-2.2 diameter 0.5 hole 0.2
via 0,-2.2 diameter 0.5 hole 0.2
via 1.1,-2.2 diameter 0.5 hole 0.2
via 2.2,-2.2 diameter 0.5 hole 0.2
Top Overlay:
  circle w0.25: c-10.6,8.45 r0.125
  circle w0.6: c-8.15,8.15 r0.3
  lines w0.2: -9.15,-9.15 -9.15,9.15 9.15,9.15 9.15,-9.15 -9.15,-9.15
Mechanical 13:
  circle w0.1: c-9.1,9.1 r0.5
  lines w0.1: -10,-10 -10,10 10,10 10,-10 -10,-10
Mechanical 15:
  lines w0.05: -12.15,-12.15 -12.15,12.15 12.15,12.15 12.15,-12.15 -12.15,-12.15
  lines w0.1: -0.5,0 0.5,0 ; 0,-0.5 0,0.5
3D body: height 1.6, standoff 0.05, extent -10,-10 10,10

## TI-NNB128-5000X5000TP_N [mm] "QFP, 128-Leads, Body 20x20mm, Pitch 0.5mm, Thermal Pad 5.1x5.1mm, IPC Medium Density"
height 1.6
pads (129):
  oval 1.8x0.3 smd: 1(-10.55,7.75) 2(-10.55,7.25) 3(-10.55,6.75) 4(-10.55,6.25) 5(-10.55,5.75) 6(-10.55,5.25) 7(-10.55,4.75) 8(-10.55,4.25) 9(-10.55,3.75) 10(-10.55,3.25) 11(-10.55,2.75) 12(-10.55,2.25) 13(-10.55,1.75) 14(-10.55,1.25) 15(-10.55,0.75) 16(-10.55,0.25) 17(-10.55,-0.25) 18(-10.55,-0.75) 19(-10.55,-1.25) 20(-10.55,-1.75) 21(-10.55,-2.25) 22(-10.55,-2.75) 23(-10.55,-3.25) 24(-10.55,-3.75) 25(-10.55,-4.25) 26(-10.55,-4.75) 27(-10.55,-5.25) 28(-10.55,-5.75) 29(-10.55,-6.25) 30(-10.55,-6.75) 31(-10.55,-7.25) 32(-10.55,-7.75) 65(10.55,-7.75) 66(10.55,-7.25) 67(10.55,-6.75) 68(10.55,-6.25) 69(10.55,-5.75) 70(10.55,-5.25) 71(10.55,-4.75) 72(10.55,-4.25) 73(10.55,-3.75) 74(10.55,-3.25) 75(10.55,-2.75) 76(10.55,-2.25) 77(10.55,-1.75) 78(10.55,-1.25) 79(10.55,-0.75) 80(10.55,-0.25) 81(10.55,0.25) 82(10.55,0.75) 83(10.55,1.25) 84(10.55,1.75) 85(10.55,2.25) 86(10.55,2.75) 87(10.55,3.25) 88(10.55,3.75) 89(10.55,4.25) 90(10.55,4.75) 91(10.55,5.25) 92(10.55,5.75) 93(10.55,6.25) 94(10.55,6.75) 95(10.55,7.25) 96(10.55,7.75)
  oval 0.3x1.8 smd: 33(-7.75,-10.55) 34(-7.25,-10.55) 35(-6.75,-10.55) 36(-6.25,-10.55) 37(-5.75,-10.55) 38(-5.25,-10.55) 39(-4.75,-10.55) 40(-4.25,-10.55) 41(-3.75,-10.55) 42(-3.25,-10.55) 43(-2.75,-10.55) 44(-2.25,-10.55) 45(-1.75,-10.55) 46(-1.25,-10.55) 47(-0.75,-10.55) 48(-0.25,-10.55) 49(0.25,-10.55) 50(0.75,-10.55) 51(1.25,-10.55) 52(1.75,-10.55) 53(2.25,-10.55) 54(2.75,-10.55) 55(3.25,-10.55) 56(3.75,-10.55) 57(4.25,-10.55) 58(4.75,-10.55) 59(5.25,-10.55) 60(5.75,-10.55) 61(6.25,-10.55) 62(6.75,-10.55) 63(7.25,-10.55) 64(7.75,-10.55) 97(7.75,10.55) 98(7.25,10.55) 99(6.75,10.55) 100(6.25,10.55) 101(5.75,10.55) 102(5.25,10.55) 103(4.75,10.55) 104(4.25,10.55) 105(3.75,10.55) 106(3.25,10.55) 107(2.75,10.55) 108(2.25,10.55) 109(1.75,10.55) 110(1.25,10.55) 111(0.75,10.55) 112(0.25,10.55) 113(-0.25,10.55) 114(-0.75,10.55) 115(-1.25,10.55) 116(-1.75,10.55) 117(-2.25,10.55) 118(-2.75,10.55) 119(-3.25,10.55) 120(-3.75,10.55) 121(-4.25,10.55) 122(-4.75,10.55) 123(-5.25,10.55) 124(-5.75,10.55) 125(-6.25,10.55) 126(-6.75,10.55) 127(-7.25,10.55) 128(-7.75,10.55)
  rect 5.1x5.1 smd: 129(0,0)
via -2.2,2.2 diameter 0.5 hole 0.2
via -1.1,2.2 diameter 0.5 hole 0.2
via 0,2.2 diameter 0.5 hole 0.2
via 1.1,2.2 diameter 0.5 hole 0.2
via 2.2,2.2 diameter 0.5 hole 0.2
via -2.2,1.1 diameter 0.5 hole 0.2
via -1.1,1.1 diameter 0.5 hole 0.2
via 0,1.1 diameter 0.5 hole 0.2
via 1.1,1.1 diameter 0.5 hole 0.2
via 2.2,1.1 diameter 0.5 hole 0.2
via -2.2,0 diameter 0.5 hole 0.2
via -1.1,0 diameter 0.5 hole 0.2
via 0,0 diameter 0.5 hole 0.2
via 1.1,0 diameter 0.5 hole 0.2
via 2.2,0 diameter 0.5 hole 0.2
via -2.2,-1.1 diameter 0.5 hole 0.2
via -1.1,-1.1 diameter 0.5 hole 0.2
via 0,-1.1 diameter 0.5 hole 0.2
via 1.1,-1.1 diameter 0.5 hole 0.2
via 2.2,-1.1 diameter 0.5 hole 0.2
via -2.2,-2.2 diameter 0.5 hole 0.2
via -1.1,-2.2 diameter 0.5 hole 0.2
via 0,-2.2 diameter 0.5 hole 0.2
via 1.1,-2.2 diameter 0.5 hole 0.2
via 2.2,-2.2 diameter 0.5 hole 0.2
Top Overlay:
  circle w0.25: c-10.55,8.45 r0.125
  circle w0.6: c-8.25,8.25 r0.3
  lines w0.2: -9.25,-9.25 -9.25,9.25 9.25,9.25 9.25,-9.25 -9.25,-9.25
Mechanical 13:
  circle w0.1: c-9.1,9.1 r0.5
  lines w0.1: -10,-10 -10,10 10,10 10,-10 -10,-10
Mechanical 15:
  lines w0.05: -11.7,-11.7 -11.7,11.7 11.7,11.7 11.7,-11.7 -11.7,-11.7
  lines w0.1: -0.5,0 0.5,0 ; 0,-0.5 0,0.5
3D body: height 1.6, standoff 0.05, extent -10,-10 10,10

## TI-NS24_L [mm] "SOP, 24-Leads, Body 15x5.3mm, Pitch 1.27mm, IPC High Density"
height 2
pads (24):
  oval 1.85x0.6 smd: 1(-3.35,6.985) 2(-3.35,5.715) 3(-3.35,4.445) 4(-3.35,3.175) 5(-3.35,1.905) 6(-3.35,0.635) 7(-3.35,-0.635) 8(-3.35,-1.905) 9(-3.35,-3.175) 10(-3.35,-4.445) 11(-3.35,-5.715) 12(-3.35,-6.985) 13(3.35,-6.985) 14(3.35,-5.715) 15(3.35,-4.445) 16(3.35,-3.175) 17(3.35,-1.905) 18(3.35,-0.635) 19(3.35,0.635) 20(3.35,1.905) 21(3.35,3.175) 22(3.35,4.445) 23(3.35,5.715) 24(3.35,6.985)
Top Overlay:
  circle w0.25: c-3.35,7.835 r0.125
  circle w0.6: c-1.025,6.65 r0.3
  lines w0.2: -2.025,-7.65 -2.025,7.65 2.025,7.65 2.025,-7.65 -2.025,-7.65
Mechanical 13:
  circle w0.1: c-1.9,6.75 r0.5
  lines w0.1: -2.8,-7.65 -2.8,7.65 2.8,7.65 2.8,-7.65 -2.8,-7.65
Mechanical 15:
  lines w0.05: -4.375,-7.75 -4.375,7.75 4.375,7.75 4.375,-7.75 -4.375,-7.75
  lines w0.1: -0.5,0 0.5,0 ; 0,-0.5 0,0.5
3D body: height 2, standoff 0.05, extent -2.8,-7.65 2.8,7.65

## TI-NS24_M [mm] "SOP, 24-Leads, Body 15x5.3mm, Pitch 1.27mm, IPC Low Density"
height 2
pads (24):
  oval 2.45x0.7 smd: 1(-3.45,6.985) 2(-3.45,5.715) 3(-3.45,4.445) 4(-3.45,3.175) 5(-3.45,1.905) 6(-3.45,0.635) 7(-3.45,-0.635) 8(-3.45,-1.905) 9(-3.45,-3.175) 10(-3.45,-4.445) 11(-3.45,-5.715) 12(-3.45,-6.985) 13(3.45,-6.985) 14(3.45,-5.715) 15(3.45,-4.445) 16(3.45,-3.175) 17(3.45,-1.905) 18(3.45,-0.635) 19(3.45,0.635) 20(3.45,1.905) 21(3.45,3.175) 22(3.45,4.445) 23(3.45,5.715) 24(3.45,6.985)
Top Overlay:
  circle w0.25: c-3.45,7.885 r0.125
  circle w0.6: c-0.825,6.65 r0.3
  lines w0.2: -1.825,-7.65 -1.825,7.65 1.825,7.65 1.825,-7.65 -1.825,-7.65
Mechanical 13:
  circle w0.1: c-1.9,6.75 r0.5
  lines w0.1: -2.8,-7.65 -2.8,7.65 2.8,7.65 2.8,-7.65 -2.8,-7.65
Mechanical 15:
  lines w0.05: -5.175,-8.15 -5.175,8.15 5.175,8.15 5.175,-8.15 -5.175,-8.15
  lines w0.1: -0.5,0 0.5,0 ; 0,-0.5 0,0.5
3D body: height 2, standoff 0.05, extent -2.8,-7.65 2.8,7.65

## TI-NS24_N [mm] "SOP, 24-Leads, Body 15x5.3mm, Pitch 1.27mm, IPC Medium Density"
height 2
pads (24):
  oval 2.15x0.6 smd: 1(-3.4,6.985) 2(-3.4,5.715) 3(-3.4,4.445) 4(-3.4,3.175) 5(-3.4,1.905) 6(-3.4,0.635) 7(-3.4,-0.635) 8(-3.4,-1.905) 9(-3.4,-3.175) 10(-3.4,-4.445) 11(-3.4,-5.715) 12(-3.4,-6.985) 13(3.4,-6.985) 14(3.4,-5.715) 15(3.4,-4.445) 16(3.4,-3.175) 17(3.4,-1.905) 18(3.4,-0.635) 19(3.4,0.635) 20(3.4,1.905) 21(3.4,3.175) 22(3.4,4.445) 23(3.4,5.715) 24(3.4,6.985)
Top Overlay:
  circle w0.25: c-3.4,7.835 r0.125
  circle w0.6: c-0.925,6.65 r0.3
  lines w0.2: -1.925,-7.65 -1.925,7.65 1.925,7.65 1.925,-7.65 -1.925,-7.65
Mechanical 13:
  circle w0.1: c-1.9,6.75 r0.5
  lines w0.1: -2.8,-7.65 -2.8,7.65 2.8,7.65 2.8,-7.65 -2.8,-7.65
Mechanical 15:
  lines w0.05: -4.725,-7.9 -4.725,7.9 4.725,7.9 4.725,-7.9 -4.725,-7.9
  lines w0.1: -0.5,0 0.5,0 ; 0,-0.5 0,0.5
3D body: height 2, standoff 0.05, extent -2.8,-7.65 2.8,7.65

## TI-NT24 [mm] "DIP, 24-Leads, Body 31.64x6.73mm, Pitch 2.54mm"
height 5.08
pads (24):
  rect 1.5x1.5 hole 0.9: 1(-3.81,13.97)
  round 1.5 hole 0.9: 2(-3.81,11.43) 3(-3.81,8.89) 4(-3.81,6.35) 5(-3.81,3.81) 6(-3.81,1.27) 7(-3.81,-1.27) 8(-3.81,-3.81) 9(-3.81,-6.35) 10(-3.81,-8.89) 11(-3.81,-11.43) 12(-3.81,-13.97) 13(3.81,-13.97) 14(3.81,-11.43) 15(3.81,-8.89) 16(3.81,-6.35) 17(3.81,-3.81) 18(3.81,-1.27) 19(3.81,1.27) 20(3.81,3.81) 21(3.81,6.35) 22(3.81,8.89) 23(3.81,11.43) 24(3.81,13.97)
Top Overlay:
  circle w0.25: c-3.81,15.27 r0.125
  circle w0.6: c-1.65,15.05 r0.3
  lines w0.2: -2.65,-16.05 -2.65,16.05 -0.635,16.05 ccw(c0,16.05) 0.635,16.05 2.65,16.05 2.65,-16.05 -2.65,-16.05
Mechanical 13:
  circle w0.1: c-2.65,15.125 r0.5
  lines w0.1: -3.55,-16.025 -3.55,16.025 3.55,16.025 3.55,-16.025 -3.55,-16.025
Mechanical 15:
  lines w0.05: -4.85,-16.3 -4.85,16.3 4.85,16.3 4.85,-16.3 -4.85,-16.3
  lines w0.1: -0.5,0 0.5,0 ; 0,-0.5 0,0.5
3D body: height 2.66, standoff 0, extent -3.945,13.47 -3.675,14.47
3D body: height 2.93, standoff 2.66, extent -3.945,13.47 -3.55,14.47
3D body: height 0, standoff -1.6, extent -3.945,13.61 -3.675,14.33
3D body: height 2.66, standoff 0, extent -3.945,10.93 -3.675,11.93
3D body: height 2.93, standoff 2.66, extent -3.945,10.93 -3.55,11.93
3D body: height 0, standoff -1.6, extent -3.945,11.07 -3.675,11.79
3D body: height 2.66, standoff 0, extent -3.945,8.39 -3.675,9.39
3D body: height 2.93, standoff 2.66, extent -3.945,8.39 -3.55,9.39
3D body: height 0, standoff -1.6, extent -3.945,8.53 -3.675,9.25
3D body: height 2.66, standoff 0, extent -3.945,5.85 -3.675,6.85
3D body: height 2.93, standoff 2.66, extent -3.945,5.85 -3.55,6.85
3D body: height 0, standoff -1.6, extent -3.945,5.99 -3.675,6.71
3D body: height 2.66, standoff 0, extent -3.945,3.31 -3.675,4.31
3D body: height 2.93, standoff 2.66, extent -3.945,3.31 -3.55,4.31
3D body: height 0, standoff -1.6, extent -3.945,3.45 -3.675,4.17
3D body: height 2.66, standoff 0, extent -3.945,0.77 -3.675,1.77
3D body: height 2.93, standoff 2.66, extent -3.945,0.77 -3.55,1.77
3D body: height 0, standoff -1.6, extent -3.945,0.91 -3.675,1.63
3D body: height 2.66, standoff 0, extent -3.945,-1.77 -3.675,-0.77
3D body: height 2.93, standoff 2.66, extent -3.945,-1.77 -3.55,-0.77
3D body: height 0, standoff -1.6, extent -3.945,-1.63 -3.675,-0.91
3D body: height 2.66, standoff 0, extent -3.945,-4.31 -3.675,-3.31
3D body: height 2.93, standoff 2.66, extent -3.945,-4.31 -3.55,-3.31
3D body: height 0, standoff -1.6, extent -3.945,-4.17 -3.675,-3.45
3D body: height 2.66, standoff 0, extent -3.945,-6.85 -3.675,-5.85
3D body: height 2.93, standoff 2.66, extent -3.945,-6.85 -3.55,-5.85
3D body: height 0, standoff -1.6, extent -3.945,-6.71 -3.675,-5.99
3D body: height 2.66, standoff 0, extent -3.945,-9.39 -3.675,-8.39
3D body: height 2.93, standoff 2.66, extent -3.945,-9.39 -3.55,-8.39
3D body: height 0, standoff -1.6, extent -3.945,-9.25 -3.675,-8.53
3D body: height 2.66, standoff 0, extent -3.945,-11.93 -3.675,-10.93
3D body: height 2.93, standoff 2.66, extent -3.945,-11.93 -3.55,-10.93
3D body: height 0, standoff -1.6, extent -3.945,-11.79 -3.675,-11.07
3D body: height 2.66, standoff 0, extent -3.945,-14.47 -3.675,-13.47
3D body: height 2.93, standoff 2.66, extent -3.945,-14.47 -3.55,-13.47
3D body: height 0, standoff -1.6, extent -3.945,-14.33 -3.675,-13.61
3D body: height 2.66, standoff 0, extent 3.675,-14.47 3.945,-13.47
3D body: height 2.93, standoff 2.66, extent 3.55,-14.47 3.945,-13.47
3D body: height 0, standoff -1.6, extent 3.675,-14.33 3.945,-13.61
3D body: height 2.66, standoff 0, extent 3.675,-11.93 3.945,-10.93
3D body: height 2.93, standoff 2.66, extent 3.55,-11.93 3.945,-10.93
3D body: height 0, standoff -1.6, extent 3.675,-11.79 3.945,-11.07
3D body: height 2.66, standoff 0, extent 3.675,-9.39 3.945,-8.39
3D body: height 2.93, standoff 2.66, extent 3.55,-9.39 3.945,-8.39
3D body: height 0, standoff -1.6, extent 3.675,-9.25 3.945,-8.53
3D body: height 2.66, standoff 0, extent 3.675,-6.85 3.945,-5.85
3D body: height 2.93, standoff 2.66, extent 3.55,-6.85 3.945,-5.85
3D body: height 0, standoff -1.6, extent 3.675,-6.71 3.945,-5.99
3D body: height 2.66, standoff 0, extent 3.675,-4.31 3.945,-3.31
3D body: height 2.93, standoff 2.66, extent 3.55,-4.31 3.945,-3.31
3D body: height 0, standoff -1.6, extent 3.675,-4.17 3.945,-3.45
3D body: height 2.66, standoff 0, extent 3.675,-1.77 3.945,-0.77
3D body: height 2.93, standoff 2.66, extent 3.55,-1.77 3.945,-0.77
3D body: height 0, standoff -1.6, extent 3.675,-1.63 3.945,-0.91
3D body: height 2.66, standoff 0, extent 3.675,0.77 3.945,1.77
3D body: height 2.93, standoff 2.66, extent 3.55,0.77 3.945,1.77
3D body: height 0, standoff -1.6, extent 3.675,0.91 3.945,1.63
3D body: height 2.66, standoff 0, extent 3.675,3.31 3.945,4.31
3D body: height 2.93, standoff 2.66, extent 3.55,3.31 3.945,4.31
3D body: height 0, standoff -1.6, extent 3.675,3.45 3.945,4.17
3D body: height 2.66, standoff 0, extent 3.675,5.85 3.945,6.85
3D body: height 2.93, standoff 2.66, extent 3.55,5.85 3.945,6.85
3D body: height 0, standoff -1.6, extent 3.675,5.99 3.945,6.71
3D body: height 2.66, standoff 0, extent 3.675,8.39 3.945,9.39
3D body: height 2.93, standoff 2.66, extent 3.55,8.39 3.945,9.39
3D body: height 0, standoff -1.6, extent 3.675,8.53 3.945,9.25
3D body: height 2.66, standoff 0, extent 3.675,10.93 3.945,11.93
3D body: height 2.93, standoff 2.66, extent 3.55,10.93 3.945,11.93
3D body: height 0, standoff -1.6, extent 3.675,11.07 3.945,11.79
3D body: height 2.66, standoff 0, extent 3.675,13.47 3.945,14.47
3D body: height 2.93, standoff 2.66, extent 3.55,13.47 3.945,14.47
3D body: height 0, standoff -1.6, extent 3.675,13.61 3.945,14.33
3D body: height 5.08, standoff 0.51, extent -3.55,-16.025 3.55,16.025